# EAGLE library part RJ45_SHIELD (library HelaTronix - Connectors)
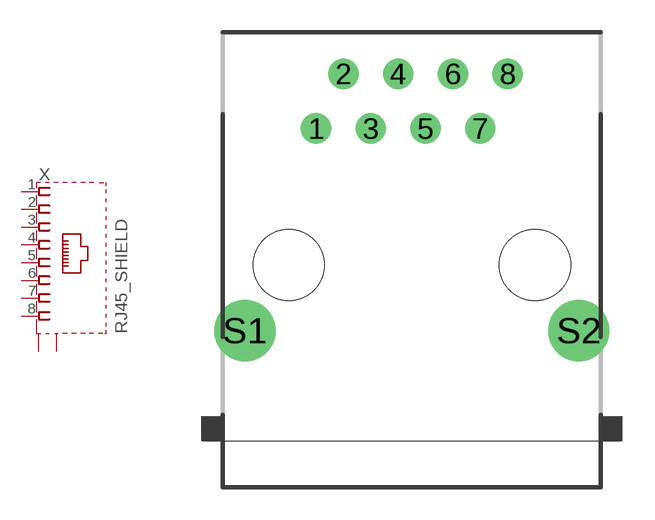
[diagram p0: symbol with the pads of RJ45-SHIELD; footprint RJ45-SHIELD]

Designator prefix X

## RJ45_SHIELD  [RJ45-SHIELD]
1  1  pas
2  2  pas
3  3  pas
4  4  pas
5  5  pas
6  6  pas
7  7  pas
8  8  pas
S1  S  pas
S2  S  pas

## Footprint RJ45-SHIELD (pad centres in mm)
RJ45 Low Profile Shield Type 2 For all RJ45 L, LC, LCT and X Series Models Source: www.tycoelectronics.com .. ENG_DS_1654001_1099_RJ_L_0507.pdf
drill 0.9 pad 1.4: 1 -4.445,6.35; 2 -3.175,8.89; 3 -1.905,6.35; 4 -0.635,8.89; 5 0.635,6.35; 6 1.905,8.89; 7 3.175,6.35; 8 4.445,8.89
drill 1.9 pad 2.5: S1 -7.75,-3.05; S2 7.75,-3.05
hole 3.3 at -5.715,0
hole 3.3 at 5.715,0